# Altium footprint library NC3FD.PcbLib: 1 footprints
Each footprint in its own frame and in the unit in brackets; x right, y up, seen from the top. Pads: shape width x height; smd on the part's side, far side on the other; paste and mask are expansions set on the pad; w line width, h text height; cw(c..) or ccw(c..) is an arc to the next point about the centre after c.
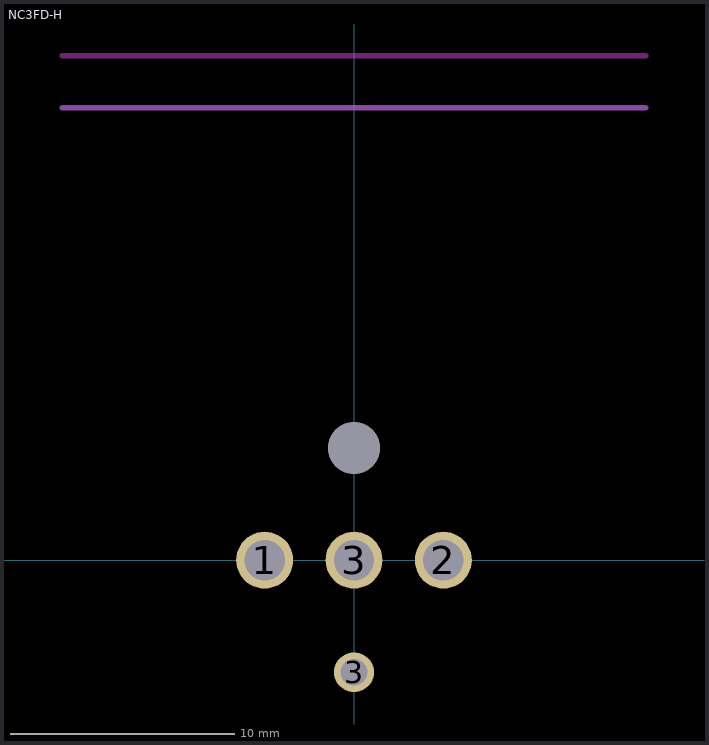
[diagram p0: the footprint, top view; thin cyan lines are the x and y axes]

## NC3FD-H [mil] "3 pole female receptacle, horizontal PCB mount"
pads (5):
  round 100 hole 71: 1(-157,0) 2(157,0) 3(0,0)
  round 70 hole 47: 3(0,-197)
  round 91 hole 91: ""(0,197)
Keep-Out Layer:
  lines w10: -512,886 512,886
Mechanical 1:
  lines w10: -512,795 512,795
3D body: height 1150.51, standoff -134.92, extent -510,-242.17 513.62,1112.16